# Altium footprint library 底盘.PcbLib: 38 footprints (part 3 of 3)
Each footprint in its own frame and in the unit in brackets; x right, y up, seen from the top. Pads: shape width x height; smd on the part's side, far side on the other; paste and mask are expansions set on the pad; w line width, h text height; cw(c..) or ccw(c..) is an arc to the next point about the centre after c.
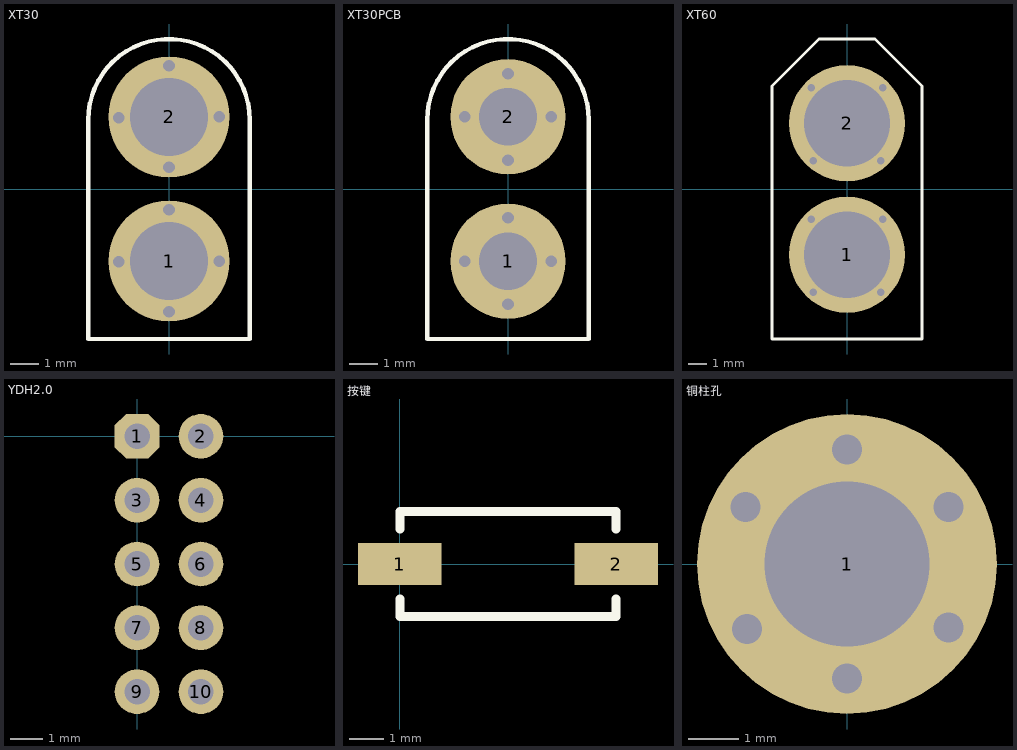
[diagram p2: the footprints below, top view; thin cyan lines are the x and y axes]

## XT30 [mm]
pads (2):
  round 4.2 hole 2.7: 1(0,-2.5) 2(0,2.5)
via 0,0.75 diameter 0.4 hole 0.4
via 0,4.275 diameter 0.4 hole 0.4
via -1.75,2.475 diameter 0.4 hole 0.4
via 1.75,2.5 diameter 0.4 hole 0.4
via 1.75,-2.5 diameter 0.4 hole 0.4
via -1.75,-2.525 diameter 0.4 hole 0.4
via 0,-0.725 diameter 0.4 hole 0.4
via 0,-4.25 diameter 0.4 hole 0.4
Top Overlay:
  lines w0.15: -2.8,-5.2 -2.8,2.4 cw(c0,2.4) 2.8,2.4 2.8,-5.2 -2.8,-5.2

## XT30PCB [mm]
pads (2):
  round 4 hole 2: 1(0,-2.5) 2(0,2.5)
via 1.5,-2.5 diameter 0.4 hole 0.4
via -1.5,-2.5 diameter 0.4 hole 0.4
via 0,-4 diameter 0.4 hole 0.4
via 0,-1 diameter 0.4 hole 0.4
via 0,1 diameter 0.4 hole 0.4
via 0,4 diameter 0.4 hole 0.4
via 1.5,2.5 diameter 0.4 hole 0.4
via -1.5,2.5 diameter 0.4 hole 0.4
Top Overlay:
  lines w0.15: -2.8,-5.2 -2.8,2.4 cw(c0,2.4) 2.8,2.4 2.8,-5.2 -2.8,-5.2

## XT60 [mm]
pads (2):
  round 6.2 hole 4.6: 1(0,-3.5) 2(0,3.5)
via -1.9,-1.6 diameter 0.4 hole 0.4
via -1.8,-5.5 diameter 0.4 hole 0.4
via 1.8,-5.5 diameter 0.4 hole 0.4
via 1.9,-1.6 diameter 0.4 hole 0.4
via 1.9,5.4 diameter 0.4 hole 0.4
via 1.8,1.5 diameter 0.4 hole 0.4
via -1.8,1.5 diameter 0.4 hole 0.4
via -1.9,5.4 diameter 0.4 hole 0.4
Top Overlay:
  lines w0.15: -4,-8 4,-8 4,0 4,5.5 1.5,8 -1.5,8 -4,5.5 -4,0 -4,-4 -4,-8

## YDH2.0 [mm]
pads (10):
  oct 1.4x1.4 hole 0.8: 1(0,0)
  round 1.4 hole 0.8: 2(2,0) 3(0,-2) 4(2,-2) 5(0,-4) 6(2,-4) 7(0,-6) 8(2,-6) 9(0,-8) 10(2,-8)

## 按键 [mm]
height 1
pads (2):
  rect 2.4x1.2 smd: 1(0,0) 2(6.2,0)
Top Overlay:
  lines w0.254: 0,-1 0,-1.5 6.2,-1.5 6.2,-1 ; 0,1 0,1.5 6.2,1.5 6.2,1

## 铜柱孔 [mm]
height 5
pads (1):
  round 6 hole 3.3: 1(0,0)
via -2,-1.3 diameter 0.6 hole 0.6
via -2.032,1.143 diameter 0.6 hole 0.6
via 0,2.286 diameter 0.6 hole 0.6
via 2.032,1.143 diameter 0.6 hole 0.6
via 2.032,-1.27 diameter 0.6 hole 0.6
via 0,-2.286 diameter 0.6 hole 0.6